# Altium schematic symbol library 26PIN.SchLib: 1 symbol
Pins are listed as number, name and electrical type; pins without a type are passive.

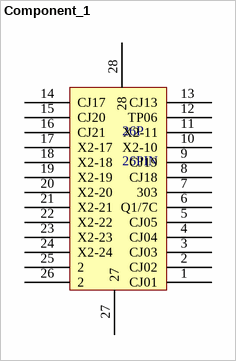
[diagram p0: symbol Component_1]

## Component_1
designator 26P, comment 26PIN
pins: 1 CJ01, 2 CJ02, 3 CJ03, 4 CJ04, 5 CJ05, 6 Q1/7C, 7 303, 8 CJ18, 9 CJ19, 10 X2-10, 11 X2-11, 12 TP06, 13 CJ13, 14 CJ17, 15 CJ20, 16 CJ21, 17 X2-17, 18 X2-18, 19 X2-19, 20 X2-20, 21 X2-21, 22 X2-22, 23 X2-23, 24 X2-24, 25 2, 26 2, 27, 28